# Altium schematic symbol library Cap.SchLib: 1 symbol
Pins are listed as number, name and electrical type; pins without a type are passive.

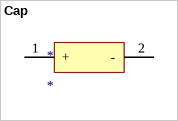
[diagram p0: symbol Cap]

## Cap
designator *
footprint Cap
pins: 1 +, 2 -